# Altium schematic symbol library B7B-XH-A.SchLib: 1 symbol
Pins are listed as number, name and electrical type; pins without a type are passive.

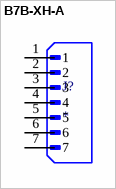
[diagram p0: symbol B7B-XH-A]

## B7B-XH-A
designator J?
Connector Header Through Hole 7 position 0.098 (2.50mm); MF: JST Sales; MP: B7B-XH-A; SnapEDA_Link: https://www.snapeda.com/parts/B7B-XH-A/JST+Sales+America+Inc./view-part/?ref=snap; Package: None; Value: *; Check_prices: https://www.snapeda.com/parts/B7B-XH-A/JST+Sales+America+Inc./view-part/?ref=eda
footprint JST_B7B-XH-A
pins: 1, 2, 3, 4, 5, 6, 7